# Altium schematic symbol library pth-connector.SchLib: 5 symbols
Pins are listed as number, name and electrical type; pins without a type are passive.

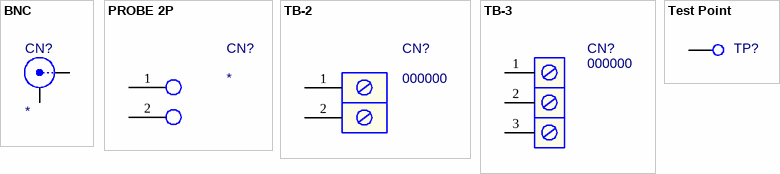
[diagram p0: symbols BNC to Test Point]

## BNC
designator CN?
BNC Elbow Connector; ExtraInfo: *
footprint BNC-V (Connector; BNC Vertical)
pins: 1 X, 2 Y

## PROBE 2P
designator CN?
Probe 2 Positions
footprint Probe Input
pins: 1, 2

## TB-2
designator CN?, comment 000000
Terminal Block 2 Positions; ExtraInfo: *; PN: 000000; Package: PTH; Value: *; MF PN: *; MF: *; Digi-Key PN: *; Price: *
footprint BARRIER-6.53-2 (Barrier Terminal Block; 6.35 Pitch; 2 Positions)
footprint BARRIER-7.62-2 (Barrier Terminal Block; 7.62mm Pitch; 2 Positions)
pins: 1, 2

## TB-3
designator CN?, comment 000000
Terminal Block 3 Positions; ExtraInfo: *; PN: 000000; Value: *; Package: PTH; Digi-Key PN: *; Price: *; MF PN: *; MF: *
footprint TERM BLOCK 7.62x3 (Terminal Block; 7.62 mm Pitch; 3 Positions)
pins: 1, 2, 3

## Test Point
designator TP?  (value not drawn)  (no BOM)
Through-Hole Test Point
footprint TP 36x28 (Test point, 36mil pad, 28mil hole)
footprint TP 32x16 (Test point, 32mil pad, 16mil hole)
footprint TP 36x26 (Test point, 36mil pad, 26mil hole)
footprint TP 54x36 (Test point, 54mil pad, 36mil hole)
footprint KEYSTONE 1040 (Test point, 2.8mm)
footprint TP 1mmx0.6mm (Test point, 1mm pad, 0.6mm hole)
footprint TP 1.4mmx0.8mm (Test point, 1.4mm pad, 0.8mm hole)
pins: 1